# Altium schematic symbol library kmilo17pet-LT_PMIC_LT.SchLib: 2252 symbols (part 122 of 124)
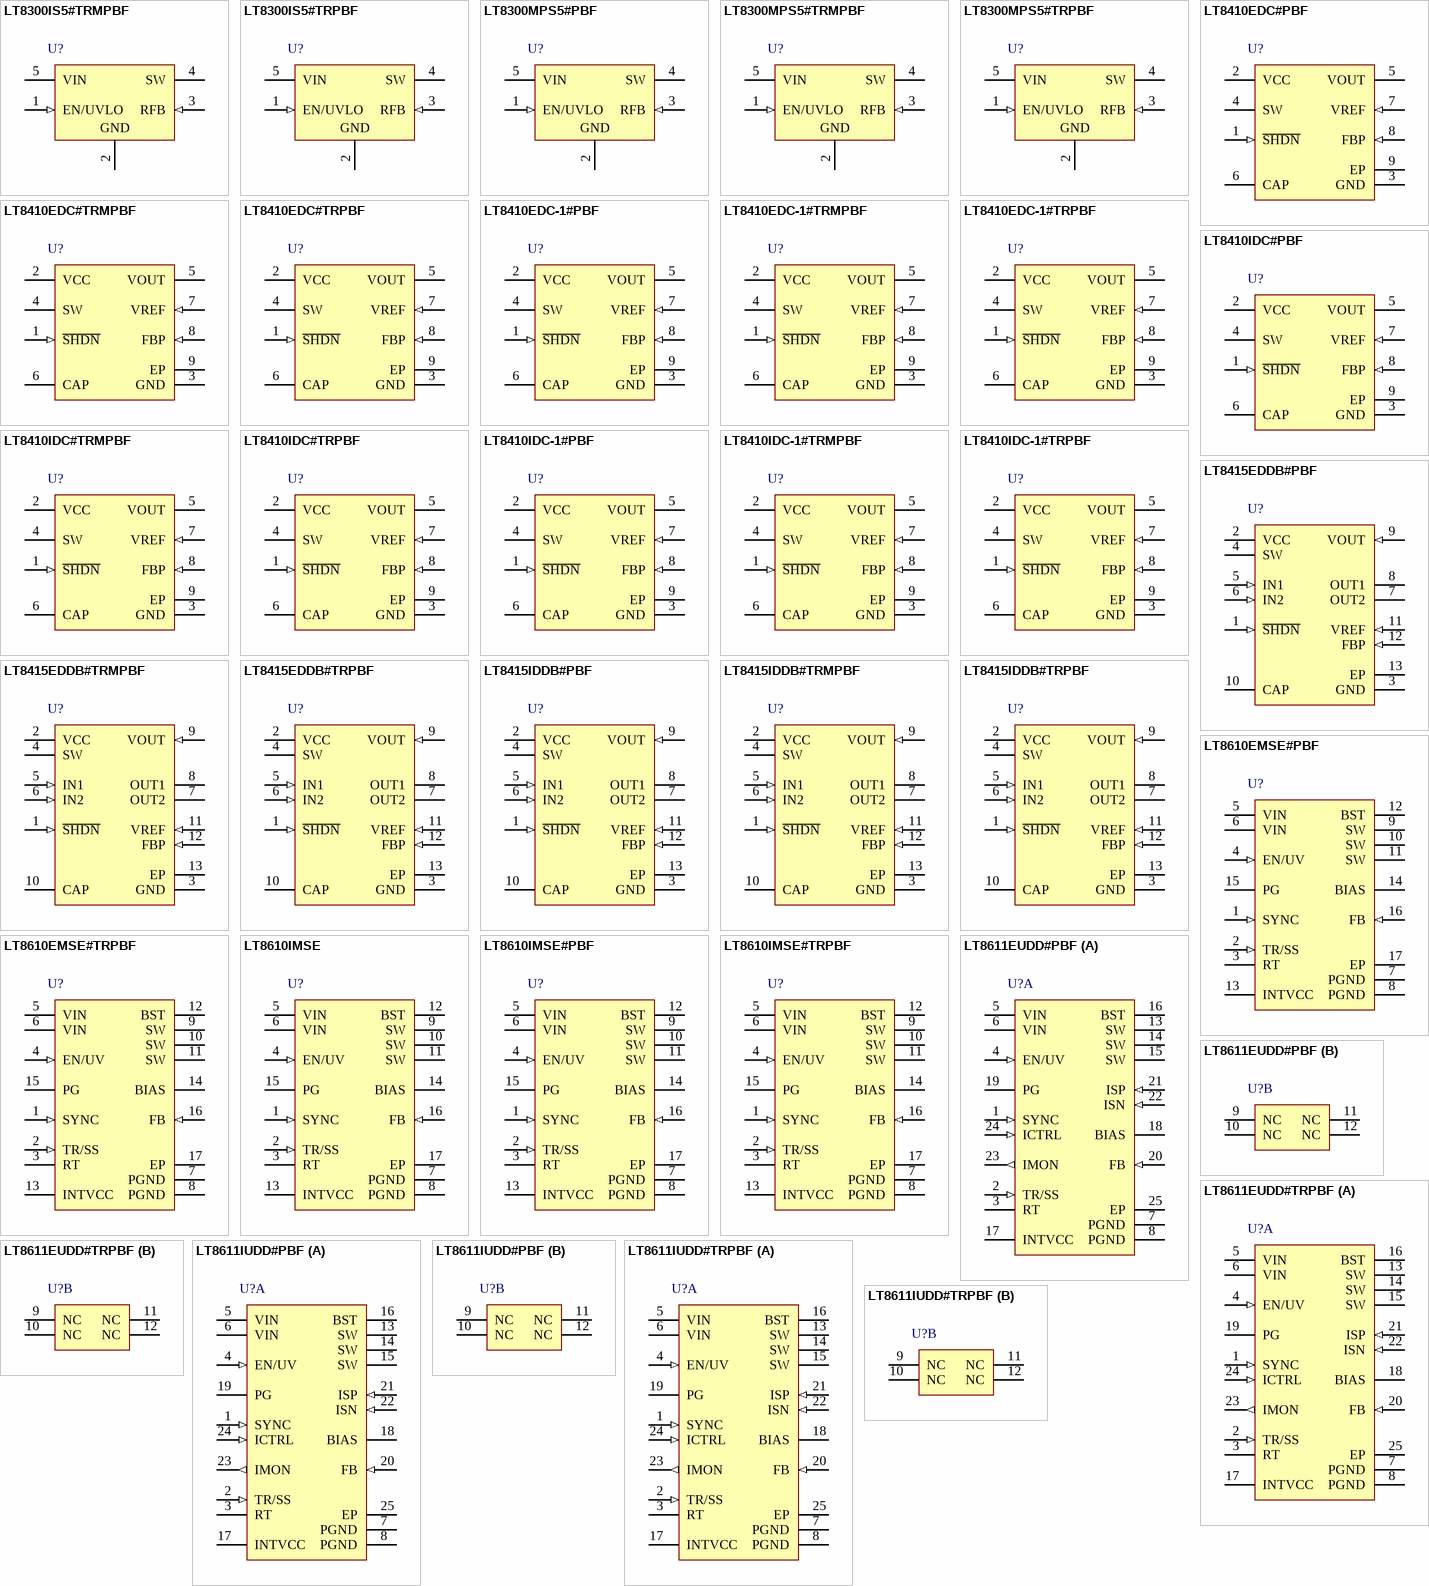
[diagram p192: symbols LT8300IS5#TRMPBF to LT8611IUDD#TRPBF]

## LT8410EDC#TRPBF
designator U?
Ultralow Power Boost Converter with Output Disconnect, 8-pin SON (DC8), -40 to 125 degC, Pb-Free, Tape and Reel; Manufacturer: Linear Technology; PartNumber: LT8410EDC#TRPBF; Number of Outputs: 1; PackageReference: DC8; PackageDescription: 8-Pin Plastic DFN, Body 2 x 2 mm, Pitch 0.45 mm; Supplier 1: Digi-Key; Supplier Part Number 1: LT8410EDC#TRPBF-ND; RoHS: TRUE
footprint LT-DC8_V (SON, 8-Leads, Body 2x2mm, Pitch 0.45mm, Thermal Pad 1.37x0.64mm, Recommended)
pins: 1 ~{SHDN} (in) "Shutdown Pin. This pin is used to enable/disable the chip. Drive below 0.3V to disable the chip. Drive above 1.45V to activate the chip. Do not float this pin.", 2 VCC (power) "Input Supply Pin. Must be locally bypassed to GND. See the Typical Applications section.", 3 GND (power) "Ground. Tie directly to local ground plane.", 4 SW "Switch Pin. This is the collector of the internal NPN power switch. Minimize the metal trace area connected to this pin to minimize EMI.", 5 VOUT (power) "Drain of Output Disconnect PMOS. Place a bypass capacitor from this pin to GND.", 6 CAP "Cathode of the Internal Schottky Diode. Place a bypass capacitor from this pin to GND.", 7 VREF (in) "Reference Pin. Soft-start can be achieved by placing a capacitor from this pin to GND. This cap will be discharged for 70us (typical) at the beginning of start-up and then be charged to 1.235V with a 10uA current source.", 8 FBP (in) "Positive Feedback Pin. This pin is the error amplifier’s positive input terminal. To achieve the desired output voltage, choose the FBP pin voltage (VFBP) according to the following formula: VFBP=VOUT/31.85, For protectio(See Datasheet)", 9 EP (power) "Pin 9 is floating but must be grounded for proper shielding."

## LT8410EDC-1#PBF
designator U?
Ultralow Power Boost Converter with Output Disconnect, 8-pin SON (DC8), -40 to 125 degC, Pb-Free; Manufacturer: Linear Technology; PartNumber: LT8410EDC-1#PBF; Number of Outputs: 1; PackageReference: DC8; PackageDescription: 8-Pin Plastic DFN, Body 2 x 2 mm, Pitch 0.45 mm; RoHS: TRUE
footprint LT-DC8_V (SON, 8-Leads, Body 2x2mm, Pitch 0.45mm, Thermal Pad 1.37x0.64mm, Recommended)
pins: 1 ~{SHDN} (in) "Shutdown Pin. This pin is used to enable/disable the chip. Drive below 0.3V to disable the chip. Drive above 1.45V to activate the chip. Do not float this pin.", 2 VCC (power) "Input Supply Pin. Must be locally bypassed to GND. See the Typical Applications section.", 3 GND (power) "Ground. Tie directly to local ground plane.", 4 SW "Switch Pin. This is the collector of the internal NPN power switch. Minimize the metal trace area connected to this pin to minimize EMI.", 5 VOUT (power) "Drain of Output Disconnect PMOS. Place a bypass capacitor from this pin to GND.", 6 CAP "Cathode of the Internal Schottky Diode. Place a bypass capacitor from this pin to GND.", 7 VREF (in) "Reference Pin. Soft-start can be achieved by placing a capacitor from this pin to GND. This cap will be discharged for 70us (typical) at the beginning of start-up and then be charged to 1.235V with a 10uA current source.", 8 FBP (in) "Positive Feedback Pin. This pin is the error amplifier’s positive input terminal. To achieve the desired output voltage, choose the FBP pin voltage (VFBP) according to the following formula: VFBP=VOUT/31.85, For protectio(See Datasheet)", 9 EP (power) "Pin 9 is floating but must be grounded for proper shielding."

## LT8410EDC-1#TRMPBF
designator U?
Ultralow Power Boost Converter with Output Disconnect, 8-pin SON (DC8), -40 to 125 degC, Pb-Free, Mini Tape and Reel; Manufacturer: Linear Technology; PartNumber: LT8410EDC-1#TRMPBF; Number of Outputs: 1; PackageReference: DC8; PackageDescription: 8-Pin Plastic DFN, Body 2 x 2 mm, Pitch 0.45 mm; Supplier 1: Digi-Key; Supplier Part Number 1: LT8410EDC-1#TRMPBFTR-ND; RoHS: TRUE
footprint LT-DC8_V (SON, 8-Leads, Body 2x2mm, Pitch 0.45mm, Thermal Pad 1.37x0.64mm, Recommended)
pins: 1 ~{SHDN} (in) "Shutdown Pin. This pin is used to enable/disable the chip. Drive below 0.3V to disable the chip. Drive above 1.45V to activate the chip. Do not float this pin.", 2 VCC (power) "Input Supply Pin. Must be locally bypassed to GND. See the Typical Applications section.", 3 GND (power) "Ground. Tie directly to local ground plane.", 4 SW "Switch Pin. This is the collector of the internal NPN power switch. Minimize the metal trace area connected to this pin to minimize EMI.", 5 VOUT (power) "Drain of Output Disconnect PMOS. Place a bypass capacitor from this pin to GND.", 6 CAP "Cathode of the Internal Schottky Diode. Place a bypass capacitor from this pin to GND.", 7 VREF (in) "Reference Pin. Soft-start can be achieved by placing a capacitor from this pin to GND. This cap will be discharged for 70us (typical) at the beginning of start-up and then be charged to 1.235V with a 10uA current source.", 8 FBP (in) "Positive Feedback Pin. This pin is the error amplifier’s positive input terminal. To achieve the desired output voltage, choose the FBP pin voltage (VFBP) according to the following formula: VFBP=VOUT/31.85, For protectio(See Datasheet)", 9 EP (power) "Pin 9 is floating but must be grounded for proper shielding."

## LT8410EDC-1#TRPBF
designator U?
Ultralow Power Boost Converter with Output Disconnect, 8-pin SON (DC8), -40 to 125 degC, Pb-Free, Tape and Reel; Manufacturer: Linear Technology; PartNumber: LT8410EDC-1#TRPBF; Number of Outputs: 1; PackageReference: DC8; PackageDescription: 8-Pin Plastic DFN, Body 2 x 2 mm, Pitch 0.45 mm; Supplier 1: Digi-Key; Supplier Part Number 1: LT8410EDC-1#TRPBF-ND; RoHS: TRUE
footprint LT-DC8_V (SON, 8-Leads, Body 2x2mm, Pitch 0.45mm, Thermal Pad 1.37x0.64mm, Recommended)
pins: 1 ~{SHDN} (in) "Shutdown Pin. This pin is used to enable/disable the chip. Drive below 0.3V to disable the chip. Drive above 1.45V to activate the chip. Do not float this pin.", 2 VCC (power) "Input Supply Pin. Must be locally bypassed to GND. See the Typical Applications section.", 3 GND (power) "Ground. Tie directly to local ground plane.", 4 SW "Switch Pin. This is the collector of the internal NPN power switch. Minimize the metal trace area connected to this pin to minimize EMI.", 5 VOUT (power) "Drain of Output Disconnect PMOS. Place a bypass capacitor from this pin to GND.", 6 CAP "Cathode of the Internal Schottky Diode. Place a bypass capacitor from this pin to GND.", 7 VREF (in) "Reference Pin. Soft-start can be achieved by placing a capacitor from this pin to GND. This cap will be discharged for 70us (typical) at the beginning of start-up and then be charged to 1.235V with a 10uA current source.", 8 FBP (in) "Positive Feedback Pin. This pin is the error amplifier’s positive input terminal. To achieve the desired output voltage, choose the FBP pin voltage (VFBP) according to the following formula: VFBP=VOUT/31.85, For protectio(See Datasheet)", 9 EP (power) "Pin 9 is floating but must be grounded for proper shielding."

## LT8410IDC#PBF
designator U?
Ultralow Power Boost Converter with Output Disconnect, 8-pin SON (DC8), -40 to 125 degC, Pb-Free; Manufacturer: Linear Technology; PartNumber: LT8410IDC#PBF; Number of Outputs: 1; PackageReference: DC8; PackageDescription: 8-Pin Plastic DFN, Body 2 x 2 mm, Pitch 0.45 mm; Supplier 1: Newark; Supplier Part Number 1: 78T4315; RoHS: TRUE
footprint LT-DC8_V (SON, 8-Leads, Body 2x2mm, Pitch 0.45mm, Thermal Pad 1.37x0.64mm, Recommended)
pins: 1 ~{SHDN} (in) "Shutdown Pin. This pin is used to enable/disable the chip. Drive below 0.3V to disable the chip. Drive above 1.45V to activate the chip. Do not float this pin.", 2 VCC (power) "Input Supply Pin. Must be locally bypassed to GND. See the Typical Applications section.", 3 GND (power) "Ground. Tie directly to local ground plane.", 4 SW "Switch Pin. This is the collector of the internal NPN power switch. Minimize the metal trace area connected to this pin to minimize EMI.", 5 VOUT (power) "Drain of Output Disconnect PMOS. Place a bypass capacitor from this pin to GND.", 6 CAP "Cathode of the Internal Schottky Diode. Place a bypass capacitor from this pin to GND.", 7 VREF (in) "Reference Pin. Soft-start can be achieved by placing a capacitor from this pin to GND. This cap will be discharged for 70us (typical) at the beginning of start-up and then be charged to 1.235V with a 10uA current source.", 8 FBP (in) "Positive Feedback Pin. This pin is the error amplifier’s positive input terminal. To achieve the desired output voltage, choose the FBP pin voltage (VFBP) according to the following formula: VFBP=VOUT/31.85, For protectio(See Datasheet)", 9 EP (power) "Pin 9 is floating but must be grounded for proper shielding."

## LT8410IDC#TRMPBF
designator U?
Ultralow Power Boost Converter with Output Disconnect, 8-pin SON (DC8), -40 to 125 degC, Pb-Free, Mini Tape and Reel; Manufacturer: Linear Technology; PartNumber: LT8410IDC#TRMPBF; Number of Outputs: 1; PackageReference: DC8; PackageDescription: 8-Pin Plastic DFN, Body 2 x 2 mm, Pitch 0.45 mm; Supplier 1: Digi-Key; Supplier Part Number 1: LT8410IDC#TRMPBF-ND; RoHS: TRUE
footprint LT-DC8_V (SON, 8-Leads, Body 2x2mm, Pitch 0.45mm, Thermal Pad 1.37x0.64mm, Recommended)
pins: 1 ~{SHDN} (in) "Shutdown Pin. This pin is used to enable/disable the chip. Drive below 0.3V to disable the chip. Drive above 1.45V to activate the chip. Do not float this pin.", 2 VCC (power) "Input Supply Pin. Must be locally bypassed to GND. See the Typical Applications section.", 3 GND (power) "Ground. Tie directly to local ground plane.", 4 SW "Switch Pin. This is the collector of the internal NPN power switch. Minimize the metal trace area connected to this pin to minimize EMI.", 5 VOUT (power) "Drain of Output Disconnect PMOS. Place a bypass capacitor from this pin to GND.", 6 CAP "Cathode of the Internal Schottky Diode. Place a bypass capacitor from this pin to GND.", 7 VREF (in) "Reference Pin. Soft-start can be achieved by placing a capacitor from this pin to GND. This cap will be discharged for 70us (typical) at the beginning of start-up and then be charged to 1.235V with a 10uA current source.", 8 FBP (in) "Positive Feedback Pin. This pin is the error amplifier’s positive input terminal. To achieve the desired output voltage, choose the FBP pin voltage (VFBP) according to the following formula: VFBP=VOUT/31.85, For protectio(See Datasheet)", 9 EP (power) "Pin 9 is floating but must be grounded for proper shielding."

## LT8410IDC#TRPBF
designator U?
Ultralow Power Boost Converter with Output Disconnect, 8-pin SON (DC8), -40 to 125 degC, Pb-Free, Tape and Reel; Manufacturer: Linear Technology; PartNumber: LT8410IDC#TRPBF; Number of Outputs: 1; PackageReference: DC8; PackageDescription: 8-Pin Plastic DFN, Body 2 x 2 mm, Pitch 0.45 mm; Supplier 1: Digi-Key; Supplier Part Number 1: LT8410IDC#TRPBF-ND; RoHS: TRUE
footprint LT-DC8_V (SON, 8-Leads, Body 2x2mm, Pitch 0.45mm, Thermal Pad 1.37x0.64mm, Recommended)
pins: 1 ~{SHDN} (in) "Shutdown Pin. This pin is used to enable/disable the chip. Drive below 0.3V to disable the chip. Drive above 1.45V to activate the chip. Do not float this pin.", 2 VCC (power) "Input Supply Pin. Must be locally bypassed to GND. See the Typical Applications section.", 3 GND (power) "Ground. Tie directly to local ground plane.", 4 SW "Switch Pin. This is the collector of the internal NPN power switch. Minimize the metal trace area connected to this pin to minimize EMI.", 5 VOUT (power) "Drain of Output Disconnect PMOS. Place a bypass capacitor from this pin to GND.", 6 CAP "Cathode of the Internal Schottky Diode. Place a bypass capacitor from this pin to GND.", 7 VREF (in) "Reference Pin. Soft-start can be achieved by placing a capacitor from this pin to GND. This cap will be discharged for 70us (typical) at the beginning of start-up and then be charged to 1.235V with a 10uA current source.", 8 FBP (in) "Positive Feedback Pin. This pin is the error amplifier’s positive input terminal. To achieve the desired output voltage, choose the FBP pin voltage (VFBP) according to the following formula: VFBP=VOUT/31.85, For protectio(See Datasheet)", 9 EP (power) "Pin 9 is floating but must be grounded for proper shielding."

## LT8410IDC-1#PBF
designator U?
Ultralow Power Boost Converter with Output Disconnect, 8-pin SON (DC8), -40 to 125 degC, Pb-Free; Manufacturer: Linear Technology; PartNumber: LT8410IDC-1#PBF; Number of Outputs: 1; PackageReference: DC8; PackageDescription: 8-Pin Plastic DFN, Body 2 x 2 mm, Pitch 0.45 mm; RoHS: TRUE
footprint LT-DC8_V (SON, 8-Leads, Body 2x2mm, Pitch 0.45mm, Thermal Pad 1.37x0.64mm, Recommended)
pins: 1 ~{SHDN} (in) "Shutdown Pin. This pin is used to enable/disable the chip. Drive below 0.3V to disable the chip. Drive above 1.45V to activate the chip. Do not float this pin.", 2 VCC (power) "Input Supply Pin. Must be locally bypassed to GND. See the Typical Applications section.", 3 GND (power) "Ground. Tie directly to local ground plane.", 4 SW "Switch Pin. This is the collector of the internal NPN power switch. Minimize the metal trace area connected to this pin to minimize EMI.", 5 VOUT (power) "Drain of Output Disconnect PMOS. Place a bypass capacitor from this pin to GND.", 6 CAP "Cathode of the Internal Schottky Diode. Place a bypass capacitor from this pin to GND.", 7 VREF (in) "Reference Pin. Soft-start can be achieved by placing a capacitor from this pin to GND. This cap will be discharged for 70us (typical) at the beginning of start-up and then be charged to 1.235V with a 10uA current source.", 8 FBP (in) "Positive Feedback Pin. This pin is the error amplifier’s positive input terminal. To achieve the desired output voltage, choose the FBP pin voltage (VFBP) according to the following formula: VFBP=VOUT/31.85, For protectio(See Datasheet)", 9 EP (power) "Pin 9 is floating but must be grounded for proper shielding."

## LT8410IDC-1#TRMPBF
designator U?
Ultralow Power Boost Converter with Output Disconnect, 8-pin SON (DC8), -40 to 125 degC, Pb-Free, Mini Tape and Reel; Manufacturer: Linear Technology; PartNumber: LT8410IDC-1#TRMPBF; Number of Outputs: 1; PackageReference: DC8; PackageDescription: 8-Pin Plastic DFN, Body 2 x 2 mm, Pitch 0.45 mm; Supplier 1: Digi-Key; Supplier Part Number 1: LT8410IDC-1#TRMPBF-ND; RoHS: TRUE
footprint LT-DC8_V (SON, 8-Leads, Body 2x2mm, Pitch 0.45mm, Thermal Pad 1.37x0.64mm, Recommended)
pins: 1 ~{SHDN} (in) "Shutdown Pin. This pin is used to enable/disable the chip. Drive below 0.3V to disable the chip. Drive above 1.45V to activate the chip. Do not float this pin.", 2 VCC (power) "Input Supply Pin. Must be locally bypassed to GND. See the Typical Applications section.", 3 GND (power) "Ground. Tie directly to local ground plane.", 4 SW "Switch Pin. This is the collector of the internal NPN power switch. Minimize the metal trace area connected to this pin to minimize EMI.", 5 VOUT (power) "Drain of Output Disconnect PMOS. Place a bypass capacitor from this pin to GND.", 6 CAP "Cathode of the Internal Schottky Diode. Place a bypass capacitor from this pin to GND.", 7 VREF (in) "Reference Pin. Soft-start can be achieved by placing a capacitor from this pin to GND. This cap will be discharged for 70us (typical) at the beginning of start-up and then be charged to 1.235V with a 10uA current source.", 8 FBP (in) "Positive Feedback Pin. This pin is the error amplifier’s positive input terminal. To achieve the desired output voltage, choose the FBP pin voltage (VFBP) according to the following formula: VFBP=VOUT/31.85, For protectio(See Datasheet)", 9 EP (power) "Pin 9 is floating but must be grounded for proper shielding."

## LT8410IDC-1#TRPBF
designator U?
Ultralow Power Boost Converter with Output Disconnect, 8-pin SON (DC8), -40 to 125 degC, Pb-Free, Tape and Reel; Manufacturer: Linear Technology; PartNumber: LT8410IDC-1#TRPBF; Number of Outputs: 1; PackageReference: DC8; PackageDescription: 8-Pin Plastic DFN, Body 2 x 2 mm, Pitch 0.45 mm; Supplier 1: Digi-Key; Supplier Part Number 1: LT8410IDC-1#TRPBF-ND; RoHS: TRUE
footprint LT-DC8_V (SON, 8-Leads, Body 2x2mm, Pitch 0.45mm, Thermal Pad 1.37x0.64mm, Recommended)
pins: 1 ~{SHDN} (in) "Shutdown Pin. This pin is used to enable/disable the chip. Drive below 0.3V to disable the chip. Drive above 1.45V to activate the chip. Do not float this pin.", 2 VCC (power) "Input Supply Pin. Must be locally bypassed to GND. See the Typical Applications section.", 3 GND (power) "Ground. Tie directly to local ground plane.", 4 SW "Switch Pin. This is the collector of the internal NPN power switch. Minimize the metal trace area connected to this pin to minimize EMI.", 5 VOUT (power) "Drain of Output Disconnect PMOS. Place a bypass capacitor from this pin to GND.", 6 CAP "Cathode of the Internal Schottky Diode. Place a bypass capacitor from this pin to GND.", 7 VREF (in) "Reference Pin. Soft-start can be achieved by placing a capacitor from this pin to GND. This cap will be discharged for 70us (typical) at the beginning of start-up and then be charged to 1.235V with a 10uA current source.", 8 FBP (in) "Positive Feedback Pin. This pin is the error amplifier’s positive input terminal. To achieve the desired output voltage, choose the FBP pin voltage (VFBP) according to the following formula: VFBP=VOUT/31.85, For protectio(See Datasheet)", 9 EP (power) "Pin 9 is floating but must be grounded for proper shielding."

## LT8415EDDB#PBF
designator U?
Ultralow Power Boost Converter with Dual Half-Bridge Switch, 12-pin SON (DDB-12), -40 to 125 degC, Pb-Free; Manufacturer: Linear Technology; PartNumber: LT8415EDDB#PBF; Number of Outputs: 1; PackageReference: DDB-12; PackageDescription: 12-Pin Plastic DFN, Body 3 x 2 mm, Pitch 0.45 mm; RoHS: TRUE
footprint LT-DDB-12_V (SON, 12-Leads, Body 3x2mm, Pitch 0.45mm, Thermal Pad 2.39x0.64mm)
pins: 1 ~{SHDN} (in) "Shutdown Pin. This pin is used to enable/disable the chip. Drive below 0.3V to disable the chip. Drive above 1.4V to activate the chip. Do not float this pin.", 2 VCC (power) "Input Supply Pin. Must be locally bypassed to GND. See typical applications section.", 3 GND (power) "Ground. Tie directly to local ground plane. Pin 13 is floating but must be grounded for proper shielding.", 4 SW "Switch Pin. This is the collector of the internal NPN power switch. Minimize the metal trace area connected to this pin to minimize EMI.", 5 IN1 (in) "First Half-Bridge Control Input. Do not float this pin.", 6 IN2 (in) "Second Half-Bridge Control Input. Do not float this pin.", 7 OUT2 (hiz) "Second Half-Bridge Output. This pin is controlled in phase by the voltage on IN2. The output level is either the voltage on VOUT or GND.", 8 OUT1 (hiz) "First Half-Bridge Output. This pin is controlled in phase by the voltage on IN1. The output level is either the voltage on VOUT or GND.", 9 VOUT (in) "Drain of Output Disconnect PMOS. Place a bypass capacitor from this pin to GND.", 10 CAP "This is the Cathode of the Internal Schottky Diode. Place a bypass capacitor from this pin to GND.", 11 VREF (in) "Reference Pin. Soft start can be achieved by placing a capacitor from this pin to GND. This cap will be discharged for 70us (typical) at the beginning of start-up and then be charged to 1.235V with a 10uA current source.", 12 FBP (in) "Positive Feedback Pin. This pin is the error amplifier’s positive input terminal. To achieve the desired output voltage, choose the FBP pin voltage (VFBP) according to the following formula: VFBP = VOUT/31.85 When resisto(See Datasheet)", 13 EP (power) "Pin 13 is floating but must be grounded for proper shielding."

## LT8415EDDB#TRMPBF
designator U?
Ultralow Power Boost Converter with Dual Half-Bridge Switch, 12-pin SON (DDB-12), -40 to 125 degC, Pb-Free, Mini Tape and Reel; Manufacturer: Linear Technology; PartNumber: LT8415EDDB#TRMPBF; Number of Outputs: 1; PackageReference: DDB-12; PackageDescription: 12-Pin Plastic DFN, Body 3 x 2 mm, Pitch 0.45 mm; Supplier 1: Digi-Key; Supplier Part Number 1: LT8415EDDB#TRMPBFTR-ND; RoHS: TRUE
footprint LT-DDB-12_V (SON, 12-Leads, Body 3x2mm, Pitch 0.45mm, Thermal Pad 2.39x0.64mm)
pins: 1 ~{SHDN} (in) "Shutdown Pin. This pin is used to enable/disable the chip. Drive below 0.3V to disable the chip. Drive above 1.4V to activate the chip. Do not float this pin.", 2 VCC (power) "Input Supply Pin. Must be locally bypassed to GND. See typical applications section.", 3 GND (power) "Ground. Tie directly to local ground plane. Pin 13 is floating but must be grounded for proper shielding.", 4 SW "Switch Pin. This is the collector of the internal NPN power switch. Minimize the metal trace area connected to this pin to minimize EMI.", 5 IN1 (in) "First Half-Bridge Control Input. Do not float this pin.", 6 IN2 (in) "Second Half-Bridge Control Input. Do not float this pin.", 7 OUT2 (hiz) "Second Half-Bridge Output. This pin is controlled in phase by the voltage on IN2. The output level is either the voltage on VOUT or GND.", 8 OUT1 (hiz) "First Half-Bridge Output. This pin is controlled in phase by the voltage on IN1. The output level is either the voltage on VOUT or GND.", 9 VOUT (in) "Drain of Output Disconnect PMOS. Place a bypass capacitor from this pin to GND.", 10 CAP "This is the Cathode of the Internal Schottky Diode. Place a bypass capacitor from this pin to GND.", 11 VREF (in) "Reference Pin. Soft start can be achieved by placing a capacitor from this pin to GND. This cap will be discharged for 70us (typical) at the beginning of start-up and then be charged to 1.235V with a 10uA current source.", 12 FBP (in) "Positive Feedback Pin. This pin is the error amplifier’s positive input terminal. To achieve the desired output voltage, choose the FBP pin voltage (VFBP) according to the following formula: VFBP = VOUT/31.85 When resisto(See Datasheet)", 13 EP (power) "Pin 13 is floating but must be grounded for proper shielding."

## LT8415EDDB#TRPBF
designator U?
Ultralow Power Boost Converter with Dual Half-Bridge Switch, 12-pin SON (DDB-12), -40 to 125 degC, Pb-Free, Tape and Reel; Manufacturer: Linear Technology; PartNumber: LT8415EDDB#TRPBF; Number of Outputs: 1; PackageReference: DDB-12; PackageDescription: 12-Pin Plastic DFN, Body 3 x 2 mm, Pitch 0.45 mm; Supplier 1: Digi-Key; Supplier Part Number 1: LT8415EDDB#TRPBF-ND; RoHS: TRUE
footprint LT-DDB-12_V (SON, 12-Leads, Body 3x2mm, Pitch 0.45mm, Thermal Pad 2.39x0.64mm)
pins: 1 ~{SHDN} (in) "Shutdown Pin. This pin is used to enable/disable the chip. Drive below 0.3V to disable the chip. Drive above 1.4V to activate the chip. Do not float this pin.", 2 VCC (power) "Input Supply Pin. Must be locally bypassed to GND. See typical applications section.", 3 GND (power) "Ground. Tie directly to local ground plane. Pin 13 is floating but must be grounded for proper shielding.", 4 SW "Switch Pin. This is the collector of the internal NPN power switch. Minimize the metal trace area connected to this pin to minimize EMI.", 5 IN1 (in) "First Half-Bridge Control Input. Do not float this pin.", 6 IN2 (in) "Second Half-Bridge Control Input. Do not float this pin.", 7 OUT2 (hiz) "Second Half-Bridge Output. This pin is controlled in phase by the voltage on IN2. The output level is either the voltage on VOUT or GND.", 8 OUT1 (hiz) "First Half-Bridge Output. This pin is controlled in phase by the voltage on IN1. The output level is either the voltage on VOUT or GND.", 9 VOUT (in) "Drain of Output Disconnect PMOS. Place a bypass capacitor from this pin to GND.", 10 CAP "This is the Cathode of the Internal Schottky Diode. Place a bypass capacitor from this pin to GND.", 11 VREF (in) "Reference Pin. Soft start can be achieved by placing a capacitor from this pin to GND. This cap will be discharged for 70us (typical) at the beginning of start-up and then be charged to 1.235V with a 10uA current source.", 12 FBP (in) "Positive Feedback Pin. This pin is the error amplifier’s positive input terminal. To achieve the desired output voltage, choose the FBP pin voltage (VFBP) according to the following formula: VFBP = VOUT/31.85 When resisto(See Datasheet)", 13 EP (power) "Pin 13 is floating but must be grounded for proper shielding."

## LT8415IDDB#PBF
designator U?
Ultralow Power Boost Converter with Dual Half-Bridge Switch, 12-pin SON (DDB-12), -40 to 125 degC, Pb-Free; Manufacturer: Linear Technology; PartNumber: LT8415IDDB#PBF; Number of Outputs: 1; PackageReference: DDB-12; PackageDescription: 12-Pin Plastic DFN, Body 3 x 2 mm, Pitch 0.45 mm; RoHS: TRUE
footprint LT-DDB-12_V (SON, 12-Leads, Body 3x2mm, Pitch 0.45mm, Thermal Pad 2.39x0.64mm)
pins: 1 ~{SHDN} (in) "Shutdown Pin. This pin is used to enable/disable the chip. Drive below 0.3V to disable the chip. Drive above 1.4V to activate the chip. Do not float this pin.", 2 VCC (power) "Input Supply Pin. Must be locally bypassed to GND. See typical applications section.", 3 GND (power) "Ground. Tie directly to local ground plane. Pin 13 is floating but must be grounded for proper shielding.", 4 SW "Switch Pin. This is the collector of the internal NPN power switch. Minimize the metal trace area connected to this pin to minimize EMI.", 5 IN1 (in) "First Half-Bridge Control Input. Do not float this pin.", 6 IN2 (in) "Second Half-Bridge Control Input. Do not float this pin.", 7 OUT2 (hiz) "Second Half-Bridge Output. This pin is controlled in phase by the voltage on IN2. The output level is either the voltage on VOUT or GND.", 8 OUT1 (hiz) "First Half-Bridge Output. This pin is controlled in phase by the voltage on IN1. The output level is either the voltage on VOUT or GND.", 9 VOUT (in) "Drain of Output Disconnect PMOS. Place a bypass capacitor from this pin to GND.", 10 CAP "This is the Cathode of the Internal Schottky Diode. Place a bypass capacitor from this pin to GND.", 11 VREF (in) "Reference Pin. Soft start can be achieved by placing a capacitor from this pin to GND. This cap will be discharged for 70us (typical) at the beginning of start-up and then be charged to 1.235V with a 10uA current source.", 12 FBP (in) "Positive Feedback Pin. This pin is the error amplifier’s positive input terminal. To achieve the desired output voltage, choose the FBP pin voltage (VFBP) according to the following formula: VFBP = VOUT/31.85 When resisto(See Datasheet)", 13 EP (power) "Pin 13 is floating but must be grounded for proper shielding."

## LT8415IDDB#TRMPBF
designator U?
Ultralow Power Boost Converter with Dual Half-Bridge Switch, 12-pin SON (DDB-12), -40 to 125 degC, Pb-Free, Mini Tape and Reel; Manufacturer: Linear Technology; PartNumber: LT8415IDDB#TRMPBF; Number of Outputs: 1; PackageReference: DDB-12; PackageDescription: 12-Pin Plastic DFN, Body 3 x 2 mm, Pitch 0.45 mm; Supplier 1: Digi-Key; Supplier Part Number 1: LT8415IDDB#TRMPBF-ND; RoHS: TRUE
footprint LT-DDB-12_V (SON, 12-Leads, Body 3x2mm, Pitch 0.45mm, Thermal Pad 2.39x0.64mm)
pins: 1 ~{SHDN} (in) "Shutdown Pin. This pin is used to enable/disable the chip. Drive below 0.3V to disable the chip. Drive above 1.4V to activate the chip. Do not float this pin.", 2 VCC (power) "Input Supply Pin. Must be locally bypassed to GND. See typical applications section.", 3 GND (power) "Ground. Tie directly to local ground plane. Pin 13 is floating but must be grounded for proper shielding.", 4 SW "Switch Pin. This is the collector of the internal NPN power switch. Minimize the metal trace area connected to this pin to minimize EMI.", 5 IN1 (in) "First Half-Bridge Control Input. Do not float this pin.", 6 IN2 (in) "Second Half-Bridge Control Input. Do not float this pin.", 7 OUT2 (hiz) "Second Half-Bridge Output. This pin is controlled in phase by the voltage on IN2. The output level is either the voltage on VOUT or GND.", 8 OUT1 (hiz) "First Half-Bridge Output. This pin is controlled in phase by the voltage on IN1. The output level is either the voltage on VOUT or GND.", 9 VOUT (in) "Drain of Output Disconnect PMOS. Place a bypass capacitor from this pin to GND.", 10 CAP "This is the Cathode of the Internal Schottky Diode. Place a bypass capacitor from this pin to GND.", 11 VREF (in) "Reference Pin. Soft start can be achieved by placing a capacitor from this pin to GND. This cap will be discharged for 70us (typical) at the beginning of start-up and then be charged to 1.235V with a 10uA current source.", 12 FBP (in) "Positive Feedback Pin. This pin is the error amplifier’s positive input terminal. To achieve the desired output voltage, choose the FBP pin voltage (VFBP) according to the following formula: VFBP = VOUT/31.85 When resisto(See Datasheet)", 13 EP (power) "Pin 13 is floating but must be grounded for proper shielding."

## LT8415IDDB#TRPBF
designator U?
Ultralow Power Boost Converter with Dual Half-Bridge Switch, 12-pin SON (DDB-12), -40 to 125 degC, Pb-Free, Tape and Reel; Manufacturer: Linear Technology; PartNumber: LT8415IDDB#TRPBF; Number of Outputs: 1; PackageReference: DDB-12; PackageDescription: 12-Pin Plastic DFN, Body 3 x 2 mm, Pitch 0.45 mm; Supplier 1: Digi-Key; Supplier Part Number 1: LT8415IDDB#TRPBF-ND; RoHS: TRUE
footprint LT-DDB-12_V (SON, 12-Leads, Body 3x2mm, Pitch 0.45mm, Thermal Pad 2.39x0.64mm)
pins: 1 ~{SHDN} (in) "Shutdown Pin. This pin is used to enable/disable the chip. Drive below 0.3V to disable the chip. Drive above 1.4V to activate the chip. Do not float this pin.", 2 VCC (power) "Input Supply Pin. Must be locally bypassed to GND. See typical applications section.", 3 GND (power) "Ground. Tie directly to local ground plane. Pin 13 is floating but must be grounded for proper shielding.", 4 SW "Switch Pin. This is the collector of the internal NPN power switch. Minimize the metal trace area connected to this pin to minimize EMI.", 5 IN1 (in) "First Half-Bridge Control Input. Do not float this pin.", 6 IN2 (in) "Second Half-Bridge Control Input. Do not float this pin.", 7 OUT2 (hiz) "Second Half-Bridge Output. This pin is controlled in phase by the voltage on IN2. The output level is either the voltage on VOUT or GND.", 8 OUT1 (hiz) "First Half-Bridge Output. This pin is controlled in phase by the voltage on IN1. The output level is either the voltage on VOUT or GND.", 9 VOUT (in) "Drain of Output Disconnect PMOS. Place a bypass capacitor from this pin to GND.", 10 CAP "This is the Cathode of the Internal Schottky Diode. Place a bypass capacitor from this pin to GND.", 11 VREF (in) "Reference Pin. Soft start can be achieved by placing a capacitor from this pin to GND. This cap will be discharged for 70us (typical) at the beginning of start-up and then be charged to 1.235V with a 10uA current source.", 12 FBP (in) "Positive Feedback Pin. This pin is the error amplifier’s positive input terminal. To achieve the desired output voltage, choose the FBP pin voltage (VFBP) according to the following formula: VFBP = VOUT/31.85 When resisto(See Datasheet)", 13 EP (power) "Pin 13 is floating but must be grounded for proper shielding."

## LT8610EMSE#PBF
designator U?
2.5 A Synchronous Step-Down Regulator 2.5 uA Quiescent Current, 16-pin SOP (MSE-16-EDP), -40 to 125 degC, Pb-Free; Manufacturer: Linear Technology; PartNumber: LT8610EMSE#PBF; Number of Outputs: 1; PackageReference: MSE-16; PackageDescription: 16-Pin Plastic MSOP, Exposed Die Pad, Body 4.039 x 3 mm, Pitch 0.5 mm; Supplier 1: Digi-Key; Supplier Part Number 1: LT8610EMSE#PBF-ND; RoHS: TRUE
footprint LT-MSE-16-EDP_N (SOP, 16-Leads, Body 4.1x3.1mm, Pitch 0.5mm, Thermal Pad 2.95x1.76mm, IPC Medium Density)
footprint LT-MSE-16-EDP_L (SOP, 16-Leads, Body 4.1x3.1mm, Pitch 0.5mm, Thermal Pad 2.95x1.76mm, IPC High Density)
footprint LT-MSE-16-EDP_M (SOP, 16-Leads, Body 4.1x3.1mm, Pitch 0.5mm, Thermal Pad 2.95x1.76mm, IPC Low Density)
pins: 1 SYNC (in) "External Clock Synchronization Input. Ground this pin for low ripple Burst Mode operation at low output loads. Tie to a clock source for synchronization to an external frequency. Apply a DC voltage of 3V or higher or tie to (See Datasheet)", 2 TR/SS (in) "Output Tracking and Soft-Start Pin. This pin allows user control of output voltage ramp rate during start-up. A TR/SS voltage below 0.97V forces the LT8610 to regulate the FB pin to equal the TR/SS pin voltage. When TR/SS is (See Datasheet)", 3 RT "A resistor is tied between RT and ground to set the switching frequency.", 4 EN/UV (in) "The LT8610 is shut down when this pin is low and active when this pin is high. The hysteretic threshold voltage is 1.00V going up and 0.96V going down. Tie to VIN if the shutdown feature is not used. An external resistor (See Datasheet)", 5 VIN (power) "The VIN pins supply current to the LT8610 internal circuitry and to the internal topside power switch. These pins must be tied together and be locally bypassed. Be sure to place the positive terminal of the input capacitor (See Datasheet)", 6 VIN (power) "The VIN pins supply current to the LT8610 internal circuitry and to the internal topside power switch. These pins must be tied together and be locally bypassed. Be sure to place the positive terminal of the input capacitor (See Datasheet)", 7 PGND (power) "Power Switch Ground. These pins are the return path of the internal bottom-side power switch and must be tied together. Place the negative terminal of the input capacitor as close to the PGND pins as possible.", 8 PGND (power) "Power Switch Ground. These pins are the return path of the internal bottom-side power switch and must be tied together. Place the negative terminal of the input capacitor as close to the PGND pins as possible.", 9 SW (power) "The SW pins are the outputs of the internal power switches. Tie these pins together and connect them to the inductor and boost capacitor. This node should be kept small on the PCB for good performance.", 10 SW (power) "The SW pins are the outputs of the internal power switches. Tie these pins together and connect them to the inductor and boost capacitor. This node should be kept small on the PCB for good performance.", 11 SW (power) "The SW pins are the outputs of the internal power switches. Tie these pins together and connect them to the inductor and boost capacitor. This node should be kept small on the PCB for good performance.", 12 BST "This pin is used to provide a drive voltage, higher than the input voltage, to the topside power switch. Place a 0.1uF boost capacitor as close as possible to the IC.", 13 INTVCC (power) "Internal 3.4V Regulator Bypass Pin. The internal power drivers and control circuits are powered from this voltage. INTVCC maximum output current is 20mA. Do not load the INTVCC pin with external circuitry. INTVCC current (See Datasheet)", 14 BIAS (power) "The internal regulator will draw current from BIAS instead of VIN when BIAS is tied to a voltage higher than 3.1V. For output voltages of 3.3V and above this pin should be tied to VOUT. If this pin is tied to a supply other (See Datasheet)", 15 PG (hiz) "The PG pin is the open-drain output of an internal comparator. PG remains low until the FB pin is within +/-9% of the final regulation voltage, and there are no fault conditions. PG is valid when VIN is above 3.4V, (See Datasheet)", 16 FB (in) "The LT8610 regulates the FB pin to 0.970V. Connect the feedback resistor divider tap to this pin. Also, connect a phase lead capacitor between FB and VOUT. Typically, this capacitor is 4.7pF to 10pF.", 17 EP (power) "Ground. The exposed pad must be connected to the negative terminal of the input capacitor and soldered to the PCB in order to lower the thermal resistance."

## LT8610EMSE#TRPBF
designator U?
2.5 A Synchronous Step-Down Regulator 2.5 uA Quiescent Current, 16-pin SOP (MSE-16-EDP), -40 to 125 degC, Pb-Free, Tape and Reel; Manufacturer: Linear Technology; PartNumber: LT8610EMSE#TRPBF; Number of Outputs: 1; PackageReference: MSE-16; PackageDescription: 16-Pin Plastic MSOP, Exposed Die Pad, Body 4.039 x 3 mm, Pitch 0.5 mm; Supplier 1: Digi-Key; Supplier Part Number 1: LT8610EMSE#TRPBF-ND; RoHS: TRUE
footprint LT-MSE-16-EDP_N (SOP, 16-Leads, Body 4.1x3.1mm, Pitch 0.5mm, Thermal Pad 2.95x1.76mm, IPC Medium Density)
footprint LT-MSE-16-EDP_L (SOP, 16-Leads, Body 4.1x3.1mm, Pitch 0.5mm, Thermal Pad 2.95x1.76mm, IPC High Density)
footprint LT-MSE-16-EDP_M (SOP, 16-Leads, Body 4.1x3.1mm, Pitch 0.5mm, Thermal Pad 2.95x1.76mm, IPC Low Density)
pins: 1 SYNC (in) "External Clock Synchronization Input. Ground this pin for low ripple Burst Mode operation at low output loads. Tie to a clock source for synchronization to an external frequency. Apply a DC voltage of 3V or higher or tie to (See Datasheet)", 2 TR/SS (in) "Output Tracking and Soft-Start Pin. This pin allows user control of output voltage ramp rate during start-up. A TR/SS voltage below 0.97V forces the LT8610 to regulate the FB pin to equal the TR/SS pin voltage. When TR/SS is (See Datasheet)", 3 RT "A resistor is tied between RT and ground to set the switching frequency.", 4 EN/UV (in) "The LT8610 is shut down when this pin is low and active when this pin is high. The hysteretic threshold voltage is 1.00V going up and 0.96V going down. Tie to VIN if the shutdown feature is not used. An external resistor (See Datasheet)", 5 VIN (power) "The VIN pins supply current to the LT8610 internal circuitry and to the internal topside power switch. These pins must be tied together and be locally bypassed. Be sure to place the positive terminal of the input capacitor (See Datasheet)", 6 VIN (power) "The VIN pins supply current to the LT8610 internal circuitry and to the internal topside power switch. These pins must be tied together and be locally bypassed. Be sure to place the positive terminal of the input capacitor (See Datasheet)", 7 PGND (power) "Power Switch Ground. These pins are the return path of the internal bottom-side power switch and must be tied together. Place the negative terminal of the input capacitor as close to the PGND pins as possible.", 8 PGND (power) "Power Switch Ground. These pins are the return path of the internal bottom-side power switch and must be tied together. Place the negative terminal of the input capacitor as close to the PGND pins as possible.", 9 SW (power) "The SW pins are the outputs of the internal power switches. Tie these pins together and connect them to the inductor and boost capacitor. This node should be kept small on the PCB for good performance.", 10 SW (power) "The SW pins are the outputs of the internal power switches. Tie these pins together and connect them to the inductor and boost capacitor. This node should be kept small on the PCB for good performance.", 11 SW (power) "The SW pins are the outputs of the internal power switches. Tie these pins together and connect them to the inductor and boost capacitor. This node should be kept small on the PCB for good performance.", 12 BST "This pin is used to provide a drive voltage, higher than the input voltage, to the topside power switch. Place a 0.1uF boost capacitor as close as possible to the IC.", 13 INTVCC (power) "Internal 3.4V Regulator Bypass Pin. The internal power drivers and control circuits are powered from this voltage. INTVCC maximum output current is 20mA. Do not load the INTVCC pin with external circuitry. INTVCC current (See Datasheet)", 14 BIAS (power) "The internal regulator will draw current from BIAS instead of VIN when BIAS is tied to a voltage higher than 3.1V. For output voltages of 3.3V and above this pin should be tied to VOUT. If this pin is tied to a supply other (See Datasheet)", 15 PG (hiz) "The PG pin is the open-drain output of an internal comparator. PG remains low until the FB pin is within +/-9% of the final regulation voltage, and there are no fault conditions. PG is valid when VIN is above 3.4V, (See Datasheet)", 16 FB (in) "The LT8610 regulates the FB pin to 0.970V. Connect the feedback resistor divider tap to this pin. Also, connect a phase lead capacitor between FB and VOUT. Typically, this capacitor is 4.7pF to 10pF.", 17 EP (power) "Ground. The exposed pad must be connected to the negative terminal of the input capacitor and soldered to the PCB in order to lower the thermal resistance."

## LT8610IMSE
designator U?
2.5 A Synchronous Step-Down Regulator 2.5 uA Quiescent Current, 16-pin SOP (MSE-16-EDP), -40 to 125 degC; Manufacturer: Linear Technology; PartNumber: LT8610IMSE; Number of Outputs: 1; PackageReference: MSE-16; PackageDescription: 16-Pin Plastic MSOP, Exposed Die Pad, Body 4.039 x 3 mm, Pitch 0.5 mm; RoHS: FALSE
footprint LT-MSE-16-EDP_N (SOP, 16-Leads, Body 4.1x3.1mm, Pitch 0.5mm, Thermal Pad 2.95x1.76mm, IPC Medium Density)
footprint LT-MSE-16-EDP_L (SOP, 16-Leads, Body 4.1x3.1mm, Pitch 0.5mm, Thermal Pad 2.95x1.76mm, IPC High Density)
footprint LT-MSE-16-EDP_M (SOP, 16-Leads, Body 4.1x3.1mm, Pitch 0.5mm, Thermal Pad 2.95x1.76mm, IPC Low Density)
pins: 1 SYNC (in) "External Clock Synchronization Input. Ground this pin for low ripple Burst Mode operation at low output loads. Tie to a clock source for synchronization to an external frequency. Apply a DC voltage of 3V or higher or tie to (See Datasheet)", 2 TR/SS (in) "Output Tracking and Soft-Start Pin. This pin allows user control of output voltage ramp rate during start-up. A TR/SS voltage below 0.97V forces the LT8610 to regulate the FB pin to equal the TR/SS pin voltage. When TR/SS is (See Datasheet)", 3 RT "A resistor is tied between RT and ground to set the switching frequency.", 4 EN/UV (in) "The LT8610 is shut down when this pin is low and active when this pin is high. The hysteretic threshold voltage is 1.00V going up and 0.96V going down. Tie to VIN if the shutdown feature is not used. An external resistor (See Datasheet)", 5 VIN (power) "The VIN pins supply current to the LT8610 internal circuitry and to the internal topside power switch. These pins must be tied together and be locally bypassed. Be sure to place the positive terminal of the input capacitor (See Datasheet)", 6 VIN (power) "The VIN pins supply current to the LT8610 internal circuitry and to the internal topside power switch. These pins must be tied together and be locally bypassed. Be sure to place the positive terminal of the input capacitor (See Datasheet)", 7 PGND (power) "Power Switch Ground. These pins are the return path of the internal bottom-side power switch and must be tied together. Place the negative terminal of the input capacitor as close to the PGND pins as possible.", 8 PGND (power) "Power Switch Ground. These pins are the return path of the internal bottom-side power switch and must be tied together. Place the negative terminal of the input capacitor as close to the PGND pins as possible.", 9 SW (power) "The SW pins are the outputs of the internal power switches. Tie these pins together and connect them to the inductor and boost capacitor. This node should be kept small on the PCB for good performance.", 10 SW (power) "The SW pins are the outputs of the internal power switches. Tie these pins together and connect them to the inductor and boost capacitor. This node should be kept small on the PCB for good performance.", 11 SW (power) "The SW pins are the outputs of the internal power switches. Tie these pins together and connect them to the inductor and boost capacitor. This node should be kept small on the PCB for good performance.", 12 BST "This pin is used to provide a drive voltage, higher than the input voltage, to the topside power switch. Place a 0.1uF boost capacitor as close as possible to the IC.", 13 INTVCC (power) "Internal 3.4V Regulator Bypass Pin. The internal power drivers and control circuits are powered from this voltage. INTVCC maximum output current is 20mA. Do not load the INTVCC pin with external circuitry. INTVCC current (See Datasheet)", 14 BIAS (power) "The internal regulator will draw current from BIAS instead of VIN when BIAS is tied to a voltage higher than 3.1V. For output voltages of 3.3V and above this pin should be tied to VOUT. If this pin is tied to a supply other (See Datasheet)", 15 PG (hiz) "The PG pin is the open-drain output of an internal comparator. PG remains low until the FB pin is within +/-9% of the final regulation voltage, and there are no fault conditions. PG is valid when VIN is above 3.4V, (See Datasheet)", 16 FB (in) "The LT8610 regulates the FB pin to 0.970V. Connect the feedback resistor divider tap to this pin. Also, connect a phase lead capacitor between FB and VOUT. Typically, this capacitor is 4.7pF to 10pF.", 17 EP (power) "Ground. The exposed pad must be connected to the negative terminal of the input capacitor and soldered to the PCB in order to lower the thermal resistance."

## LT8610IMSE#PBF
designator U?
2.5 A Synchronous Step-Down Regulator 2.5 uA Quiescent Current, 16-pin SOP (MSE-16-EDP), -40 to 125 degC, Pb-Free; Manufacturer: Linear Technology; PartNumber: LT8610IMSE#PBF; Number of Outputs: 1; PackageReference: MSE-16; PackageDescription: 16-Pin Plastic MSOP, Exposed Die Pad, Body 4.039 x 3 mm, Pitch 0.5 mm; Supplier 1: Digi-Key; Supplier Part Number 1: LT8610IMSE#PBF-ND; RoHS: TRUE
footprint LT-MSE-16-EDP_N (SOP, 16-Leads, Body 4.1x3.1mm, Pitch 0.5mm, Thermal Pad 2.95x1.76mm, IPC Medium Density)
footprint LT-MSE-16-EDP_L (SOP, 16-Leads, Body 4.1x3.1mm, Pitch 0.5mm, Thermal Pad 2.95x1.76mm, IPC High Density)
footprint LT-MSE-16-EDP_M (SOP, 16-Leads, Body 4.1x3.1mm, Pitch 0.5mm, Thermal Pad 2.95x1.76mm, IPC Low Density)
pins: 1 SYNC (in) "External Clock Synchronization Input. Ground this pin for low ripple Burst Mode operation at low output loads. Tie to a clock source for synchronization to an external frequency. Apply a DC voltage of 3V or higher or tie to (See Datasheet)", 2 TR/SS (in) "Output Tracking and Soft-Start Pin. This pin allows user control of output voltage ramp rate during start-up. A TR/SS voltage below 0.97V forces the LT8610 to regulate the FB pin to equal the TR/SS pin voltage. When TR/SS is (See Datasheet)", 3 RT "A resistor is tied between RT and ground to set the switching frequency.", 4 EN/UV (in) "The LT8610 is shut down when this pin is low and active when this pin is high. The hysteretic threshold voltage is 1.00V going up and 0.96V going down. Tie to VIN if the shutdown feature is not used. An external resistor (See Datasheet)", 5 VIN (power) "The VIN pins supply current to the LT8610 internal circuitry and to the internal topside power switch. These pins must be tied together and be locally bypassed. Be sure to place the positive terminal of the input capacitor (See Datasheet)", 6 VIN (power) "The VIN pins supply current to the LT8610 internal circuitry and to the internal topside power switch. These pins must be tied together and be locally bypassed. Be sure to place the positive terminal of the input capacitor (See Datasheet)", 7 PGND (power) "Power Switch Ground. These pins are the return path of the internal bottom-side power switch and must be tied together. Place the negative terminal of the input capacitor as close to the PGND pins as possible.", 8 PGND (power) "Power Switch Ground. These pins are the return path of the internal bottom-side power switch and must be tied together. Place the negative terminal of the input capacitor as close to the PGND pins as possible.", 9 SW (power) "The SW pins are the outputs of the internal power switches. Tie these pins together and connect them to the inductor and boost capacitor. This node should be kept small on the PCB for good performance.", 10 SW (power) "The SW pins are the outputs of the internal power switches. Tie these pins together and connect them to the inductor and boost capacitor. This node should be kept small on the PCB for good performance.", 11 SW (power) "The SW pins are the outputs of the internal power switches. Tie these pins together and connect them to the inductor and boost capacitor. This node should be kept small on the PCB for good performance.", 12 BST "This pin is used to provide a drive voltage, higher than the input voltage, to the topside power switch. Place a 0.1uF boost capacitor as close as possible to the IC.", 13 INTVCC (power) "Internal 3.4V Regulator Bypass Pin. The internal power drivers and control circuits are powered from this voltage. INTVCC maximum output current is 20mA. Do not load the INTVCC pin with external circuitry. INTVCC current (See Datasheet)", 14 BIAS (power) "The internal regulator will draw current from BIAS instead of VIN when BIAS is tied to a voltage higher than 3.1V. For output voltages of 3.3V and above this pin should be tied to VOUT. If this pin is tied to a supply other (See Datasheet)", 15 PG (hiz) "The PG pin is the open-drain output of an internal comparator. PG remains low until the FB pin is within +/-9% of the final regulation voltage, and there are no fault conditions. PG is valid when VIN is above 3.4V, (See Datasheet)", 16 FB (in) "The LT8610 regulates the FB pin to 0.970V. Connect the feedback resistor divider tap to this pin. Also, connect a phase lead capacitor between FB and VOUT. Typically, this capacitor is 4.7pF to 10pF.", 17 EP (power) "Ground. The exposed pad must be connected to the negative terminal of the input capacitor and soldered to the PCB in order to lower the thermal resistance."